# Altium schematic symbol library EECS_300_PCB1.SCHLIB: 10 symbols
Pins are listed as number, name and electrical type; pins without a type are passive.

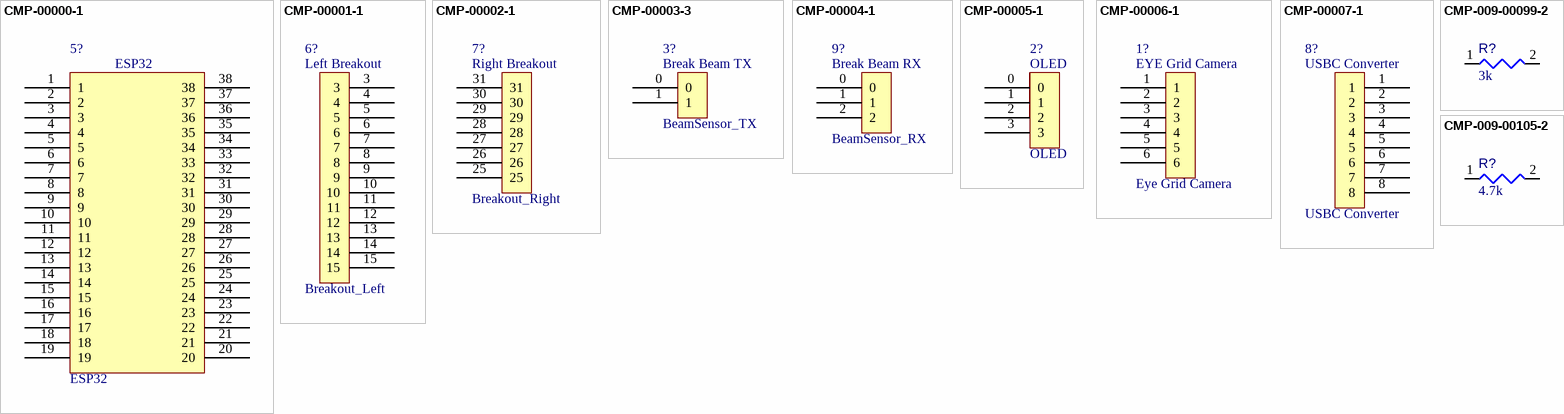
[diagram p0: symbols CMP-00000-1 to CMP-009-00105-2]

## CMP-00000-1
designator 5?, comment ESP32
first esp32 footprint
footprint ESP32 (initial footprint design for the ESP32)
pins: 1, 2, 3, 4, 5, 6, 7, 8, 9, 10, 11, 12, 13, 14, 15, 16, 17, 18, 19, 20, 21, 22, 23, 24, 25, 26, 27, 28, 29, 30, 31, 32, 33, 34, 35, 36, 37, 38

## CMP-00001-1
designator 6?, comment Breakout_Left
left breakout rail
footprint Left Breakout (left breakout bar for wiring)
pins: 3, 4, 5, 6, 7, 8, 9, 10, 11, 12, 13, 14, 15
text: Left Breakout

## CMP-00002-1
designator 7?, comment Breakout_Right
right breakout rail
footprint Breakout_Right
pins: 25, 26, 27, 28, 29, 30, 31
text: Right Breakout

## CMP-00003-3
designator 3?, comment BeamSensor_TX
pinout for the break beam sensor
footprint Beam_TX
pins: 0, 1
text: Break Beam TX

## CMP-00004-1
designator 9?, comment BeamSensor_RX
pinout for the break beam sensor RX
footprint Beam_RX
pins: 0, 1, 2
text: Break Beam RX

## CMP-00005-1
designator 2?, comment OLED
footprint of OLED display
footprint OLED
pins: 0, 1, 2, 3

## CMP-00006-1
designator 1?, comment Eye Grid Camera
IR Camera
footprint IR Camera
pins: 1, 2, 3, 4, 5, 6
text: EYE Grid Camera

## CMP-00007-1
designator 8?, comment USBC Converter
Converter for the power bank
footprint USBC converter
pins: 1, 2, 3, 4, 5, 6, 7, 8

## CMP-009-00099-2
designator R?, comment value 3k  (hidden comment: 3KR2F)
3K 0.063W 1% 0402 (1005 Metric)  SMD; Power: 63mW; Case/Package: 0402; Tolerance: 1%; Mounting Technology: SMT; Pins: 2; Component Type: Resistors
footprint RESC0402(1005)_L (Chip Resistor, Body 1.0x0.5mm, IPC High Density)
pins: 1, 2
1 alternate drawing of the same symbol

## CMP-009-00105-2
designator R?, comment value 4.7k  (hidden comment: 4D7KR2F)
4K7 0.063W 1% 0402 (1005 Metric)  SMD; Power: 63mW; Mounting Technology: SMT; Case/Package: 0402; Tolerance: 1%; Pins: 2; Component Type: Resistors
footprint RESC0402(1005)_L (Chip Resistor, Body 1.0x0.5mm, IPC High Density)
pins: 1, 2
1 alternate drawing of the same symbol